# Altium footprint library PcbLib.PcbLib: 20 footprints (part 1 of 2)
Each footprint in its own frame and in the unit in brackets; x right, y up, seen from the top. Pads: shape width x height; smd on the part's side, far side on the other; paste and mask are expansions set on the pad; w line width, h text height; cw(c..) or ccw(c..) is an arc to the next point about the centre after c.
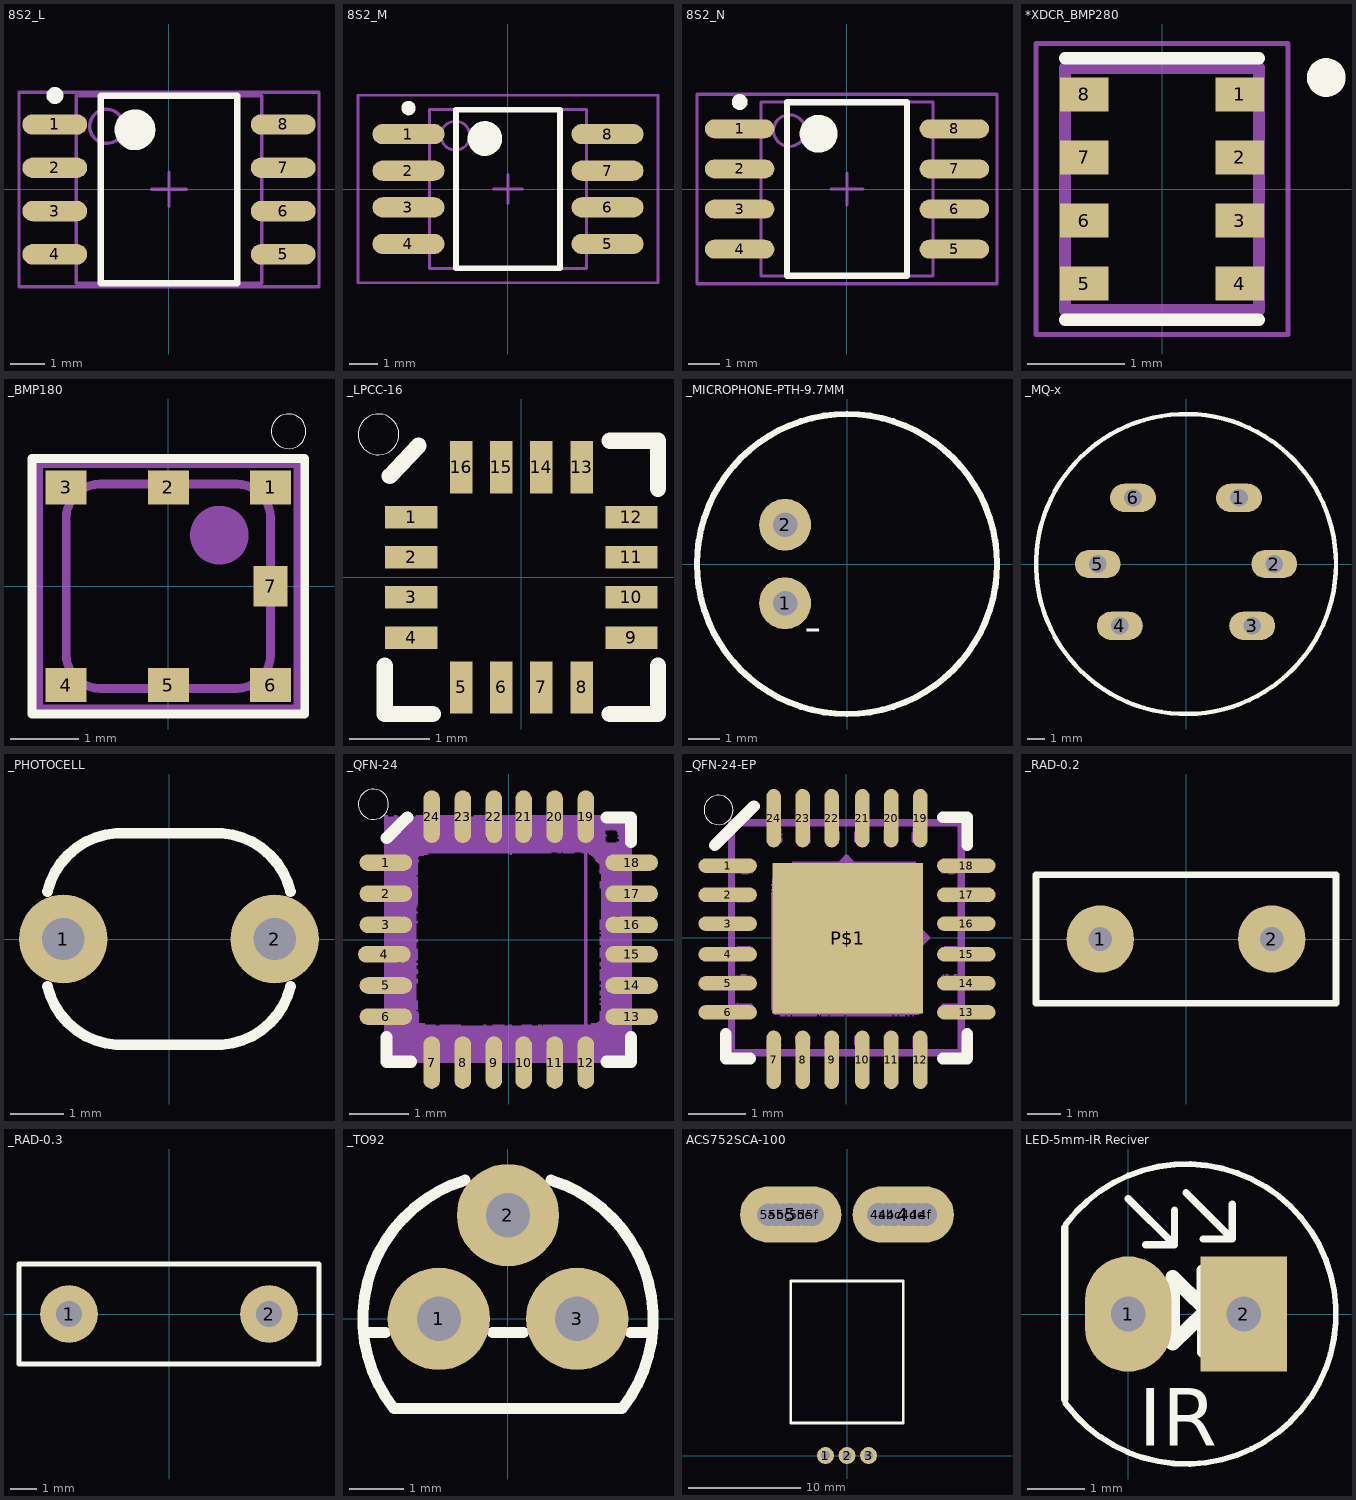
[diagram p0: the footprints below, top view; thin cyan lines are the x and y axes]

## 8S2_L [mm] "SOP, 8-Leads, Body 5.3x5.3mm, Pitch 1.27mm, IPC High Density"
height 2.16
pads (8):
  oval 1.9x0.6 smd: 1(-3.35,1.905) 2(-3.35,0.635) 3(-3.35,-0.635) 4(-3.35,-1.905) 5(3.35,-1.905) 6(3.35,-0.635) 7(3.35,0.635) 8(3.35,1.905)
Top Overlay:
  circle w0.25: c-3.35,2.755 r0.125
  circle w0.6: c-1,1.75 r0.3
  lines w0.2: -2,-2.75 -2,2.75 2,2.75 2,-2.75 -2,-2.75
Mechanical 13:
  circle w0.1: c-1.825,1.85 r0.5
  lines w0.1: -2.725,-2.75 -2.725,2.75 2.725,2.75 2.725,-2.75 -2.725,-2.75
Mechanical 15:
  lines w0.1: -0.5,0 0.5,0 ; 0,-0.5 0,0.5 ; -4.4,-2.85 -4.4,2.85 4.4,2.85 4.4,-2.85 -4.4,-2.85
3D body "User Library-SOP8.STEP": height 1.75, standoff 0, extent -3.1,-2.5 3.1,2.5

## 8S2_M [mm] "SOP, 8-Leads, Body 5.3x5.3mm, Pitch 1.27mm, IPC Low Density"
height 2.16
pads (8):
  oval 2.5x0.7 smd: 1(-3.45,1.905) 2(-3.45,0.635) 3(-3.45,-0.635) 4(-3.45,-1.905) 5(3.45,-1.905) 6(3.45,-0.635) 7(3.45,0.635) 8(3.45,1.905)
Top Overlay:
  circle w0.6: c-0.8,1.75 r0.3
  circle w0.25: c-3.45,2.805 r0.125
  lines w0.2: -1.8,-2.75 1.8,-2.75 1.8,2.75 -1.8,2.75 -1.8,-2.75
Mechanical 13:
  circle w0.1: c-1.825,1.85 r0.5
  lines w0.1: -2.725,-2.75 2.725,-2.75 2.725,2.75 -2.725,2.75 -2.725,-2.75
Mechanical 15:
  lines w0.1: -0.5,0 0.5,0 ; 0,-0.5 0,0.5 ; -5.2,-3.25 5.2,-3.25 5.2,3.25 -5.2,3.25 -5.2,-3.25
3D body "User Library-SOP8.STEP": height 1.75, standoff 0, extent -3.1,-2.5 3.1,2.5

## 8S2_N [mm] "SOP, 8-Leads, Body 5.3x5.3mm, Pitch 1.27mm, IPC Medium Density"
height 2.16
pads (8):
  oval 2.2x0.6 smd: 1(-3.4,1.905) 2(-3.4,0.635) 3(-3.4,-0.635) 4(-3.4,-1.905) 5(3.4,-1.905) 6(3.4,-0.635) 7(3.4,0.635) 8(3.4,1.905)
Top Overlay:
  circle w0.6: c-0.9,1.75 r0.3
  circle w0.25: c-3.4,2.755 r0.125
  lines w0.2: -1.9,-2.75 1.9,-2.75 1.9,2.75 -1.9,2.75 -1.9,-2.75
Mechanical 13:
  circle w0.1: c-1.825,1.85 r0.5
  lines w0.1: -2.725,-2.75 2.725,-2.75 2.725,2.75 -2.725,2.75 -2.725,-2.75
Mechanical 15:
  lines w0.1: -0.5,0 0.5,0 ; 0,-0.5 0,0.5 ; -4.75,-3 4.75,-3 4.75,3 -4.75,3 -4.75,-3
3D body "User Library-SOP8.STEP": height 1.75, standoff 0, extent -3.1,-2.5 3.1,2.5

## *XDCR_BMP280 [mm]
pads (8):
  rect 0.5x0.35 smd: 1(0.8,0.975) 2(0.8,0.325) 3(0.8,-0.325) 4(0.8,-0.975) 5(-0.8,-0.975) 6(-0.8,-0.325) 7(-0.8,0.325) 8(-0.8,0.975)
Top Overlay:
  circle w0.2: c1.695,1.15 r0.1
  lines w0.127: -1,-1.35 1,-1.35 ; -1,1.35 1,1.35
Mechanical 4:
  lines w0.127: -1,-1.25 -1,1.25 ; -1,-1.25 1,-1.25 ; -1,-1.25 -1,1.25 ; -1,-1.25 1,-1.25 ; -1,1.25 1,1.25 ; -1,1.25 1,1.25 ; 1,-1.25 1,1.25 ; 1,-1.25 1,1.25
Mechanical 16:
  lines w0.05: -1.3,-1.5 1.3,-1.5 1.3,1.5 -1.3,1.5 -1.3,-1.5

## _BMP180 [mm]
pads (7):
  rect 0.6x0.5 smd: 1(1.5,1.45) 2(0,1.45) 3(-1.5,1.45) 4(-1.5,-1.45) 5(0,-1.45) 6(1.5,-1.45)
  rect 0.5x0.6 smd: 7(1.5,0)
Top Overlay:
  circle w0: c1.766,2.274 r0.254
  lines w0.127: -2,-1.875 -2,1.875 2,1.875 2,-1.875 -2,-1.875
Mechanical 16:
  circle w0.61: c0.75,0.75 r0.125
  lines w0.127: -1.9,-1.8 -1.9,1.8 1.9,1.8 1.9,-1.8 -1.9,-1.8 ; -1.5,-1 ccw(c-1,-1) -1,-1.5 1,-1.5 ccw(c1,-1) 1.5,-1 1.5,1 ccw(c1,1) 1,1.5 -1,1.5 ccw(c-1,1) -1.5,1 -1.5,-1

## _LPCC-16 [mm]
pads (16):
  rect 0.65x0.28 smd: 1(-1.37,0.75) 2(-1.37,0.25) 3(-1.37,-0.25) 4(-1.37,-0.75) 9(1.37,-0.75) 10(1.37,-0.25) 11(1.37,0.25) 12(1.37,0.75)
  rect 0.28x0.65 smd: 5(-0.75,-1.37) 6(-0.25,-1.37) 7(0.25,-1.37) 8(0.75,-1.37) 13(0.75,1.37) 14(0.25,1.37) 15(-0.25,1.37) 16(-0.75,1.37)
Top Overlay:
  circle w0: c-1.778,1.778 r0.254
  lines w0.203: -1.7,-1.1 -1.7,-1.7 -1.1,-1.7 ; -1.635,1.26 -1.28,1.635 ; 1.1,-1.7 1.7,-1.7 1.7,-1.1 ; 1.1,1.7 1.7,1.7 1.7,1.1

## _MICROPHONE-PTH-9.7MM [mil]
pads (2):
  round 66 hole 31.5: 1(-78.74,-50) 2(-78.74,50)
Top Overlay:
  circle w8: c0,0 r190.94
  text "-" at -54.57,-115.35 h77.5

## _MQ-x [mm] "Gas sensor"
height 10
pads (6):
  oval 2.6x1.6 hole 1: 1(3,3.75) 2(5,0) 3(3.75,-3.5) 4(-3.75,-3.5) 5(-5,0) 6(-3,3.75)
Top Overlay:
  circle w0.254: c0,0 r8.5

## _PHOTOCELL [mil]
pads (2):
  round 66 hole 31.5: 1(-78.74,0) 2(78.74,0)
Top Overlay:
  lines w8: -90.55,-35.43 ccw(c-35.48,-22.25) -39.37,-78.74 39.37,-78.74 ccw(c35.48,-22.24) 90.55,-35.43 ; -90.55,35.43 cw(c-35.48,22.24) -39.37,78.74 39.37,78.74 cw(c35.48,22.25) 90.55,35.43

## _QFN-24 [mil]
pads (24):
  rrect100% 35x11 smd: 1(-81.74,51.21) 2(-81.74,30.53) 3(-81.74,9.84) 4(-82.74,-9.84) 5(-81.74,-30.53) 6(-81.74,-51.21) 13(81.74,-51.21) 14(81.74,-30.53) 15(81.74,-9.84) 16(81.74,9.84) 17(81.74,30.53) 18(81.74,51.21)
  rrect100% 11x35 smd: 7(-51.21,-81.74) 8(-30.53,-81.74) 9(-9.84,-81.74) 10(9.84,-81.74) 11(30.53,-81.74) 12(51.21,-81.74) 19(51.21,81.74) 20(30.53,81.74) 21(9.84,81.74) 22(-9.84,81.74) 23(-30.53,81.74) 24(-51.21,81.74)
Top Overlay:
  circle w0: c-90,90 r10
  lines w8: -81.24,-64.96 -81.24,-81.24 -64.96,-81.24 ; -81.24,67.46 -67.46,81.24 ; 64.96,-81.24 81.24,-81.24 81.24,-64.96 ; 64.96,81.24 81.24,81.24 81.24,64.96
Mechanical 14:
  lines w2: 51.2,-79.2 51.2,79.8
Mechanical 84:
  drawing of 757 lines, arcs and shapes, not listed

## _QFN-24-EP [mil]
pads (25):
  rrect100% 40x10 smd: 1(-81.35,49.48) 2(-81.35,29.51) 3(-81.35,9.74) 4(-81.35,-11.32) 5(-81.35,-31.19) 6(-81.35,-51.05) 13(82.13,-51.05) 14(82.13,-31.19) 15(82.13,-11.32) 16(82.13,9.74) 17(82.13,29.51) 18(82.13,49.48)
  rrect100% 10x40 smd: 7(-49.87,-83.53) 8(-30,-83.53) 9(-10.14,-83.53) 10(10.93,-83.53) 11(30.69,-83.53) 12(50.66,-83.53) 19(50.66,81.95) 20(30.69,81.95) 21(10.93,81.95) 22(-10.14,81.95) 23(-30,81.95) 24(-49.87,81.95)
  rect 103x103 smd: P$1(0.79,-0.39)
Top Overlay:
  circle w0: c-87.58,87.58 r10
  lines w8: -90.18,63.37 -63.37,90.18 ; -82.68,-65.87 -82.68,-82.68 -65.87,-82.68 ; 65.87,-82.68 82.68,-82.68 82.68,-65.87 ; 65.87,82.68 82.68,82.68 82.68,63.37
Top Paste:
  rectangle: 15.5,-34.5 34.5,-15.5
  rectangle: -32.5,-34.5 -13.5,-15.5
  rectangle: 17,13 36,32
  rectangle: -33,13 -14,32
Mechanical 16:
  circle w3.94: c0,0 r7.87
  lines w3.94: -11.81,27.56 cw(c0,25.59) 11.81,27.56 ; -7.87,47.24 0,55.12 ; 0,7.87 0,55.12 ; 7.87,0 55.12,0 ; 7.87,27.56 11.81,27.56 ; 7.87,47.24 0,55.12 ; 15.75,31.5 11.81,27.56 ; 27.56,-7.87 27.56,-11.81 ; 27.56,11.81 cw(c25.59,0) 27.56,-11.81 ; 31.5,-15.75 27.56,-11.81 ; 47.24,-7.87 55.12,0 ; 47.24,7.87 55.12,0
  lines w5: -78.74,-78.74 -78.74,78.74 78.74,78.74 78.74,-78.74 -78.74,-78.74
  text "Z" at -3.94,-23.62 h15.5
  text "X" at 43.31,15.75 h15.5
  text "Y" at -23.62,39.37 h15.5
Mechanical 84:
  drawing of 620 lines, arcs and shapes, not listed

## _RAD-0.2 [mm] "5.08mm"
pads (2):
  round 2 hole 0.7: 1(-2.54,0) 2(2.54,0)
Top Overlay:
  lines w0.2: -4.445,-1.905 -4.445,1.905 4.445,1.905 4.445,-1.905 -4.445,-1.905

## _RAD-0.3 [mm] "7.62mm"
height 6
pads (2):
  round 2.2 hole 1: 1(-3.81,0) 2(3.81,0)
Top Overlay:
  lines w0.2: -5.715,-1.905 -5.715,1.905 5.715,1.905 5.715,-1.905 -5.715,-1.905

## _TO92 [mil]
pads (3):
  round 74 hole 32: 1(-50,0) 2(0,75) 3(50,0)
Top Overlay:
  lines w8: -104.52,-10 -88.73,-10 ; -30.96,100.33 ccw(c0,0) -82.46,-65 82.46,-65 ccw(c0,0) 30.96,100.33 ; -11.27,-10 11.27,-10 ; 88.73,-10 104.52,-10

## ACS752SCA-100 [mil]
height 295.28
pads (17):
  round 59.06 hole 31.5: 1(-75.2,0) 2(0,0) 3(75.2,0)
  oval 353.63x196.63 hole 80: 4(196.85,842.52) 5(-196.85,842.52)
  round 70 hole 80: 4a(110.78,842.52) 4b(139,842.52) 4c(165.52,842.52) 4d(220.26,842.52) 4e(247,842.52) 4f(275,842.52) 5a(-275,842) 5b(-246,842) 5c(-220,842) 5d(-173,842) 5e(-146,842) 5f(-120,842)
Top Overlay:
  lines w10: -196.85,114.17 196.85,114.17 196.85,610.24 -196.85,610.24 -196.85,114.17
3D body: height 159.45, standoff -118.11, extent -9.84,-7.48 9.84,7.48
3D body: height 287.4, standoff 11.81, extent -196.85,114.17 196.85,610.24
3D body: height 177.17, standoff 118.11, extent -277.56,283.46 -116.14,874.02
3D body: height 177.17, standoff 118.11, extent 116.14,283.46 277.56,874.02
3D body: height 118.11, standoff -125.98, extent -277.56,811.02 -116.14,874.02
3D body: height 118.11, standoff -125.98, extent 116.14,811.02 277.56,874.02
3D body: height 159.45, standoff -118.11, extent -85.04,-7.48 -65.35,7.48
3D body: height 159.45, standoff -118.11, extent 65.35,-7.48 85.04,7.48
3D body: height 174.41, standoff 159.45, extent 65.35,-7.48 85.04,114.17
3D body: height 174.41, standoff 159.45, extent -9.84,-7.48 9.84,114.17
3D body: height 174.41, standoff 159.45, extent -85.04,-7.48 -65.35,114.17

## LED-5mm-IR Reciver [mm]
pads (2):
  oval 1.5x2 hole 0.6: 1(0,0)
  rect 1.5x2 hole 0.6: 2(2,0)
Top Overlay:
  lines w0.1: -1.089,-1.548 ccw(c1,0) -1.08,1.56
  lines w0.127: -1.1,-1.483 -1.1,1.5 ; 0,2 0.8,1.2 ; 0.3,1.2 0.8,1.2 ; 0.8,1.8 0.8,1.2 ; 1,2.1 1.8,1.3 ; 1.3,1.3 1.8,1.3 ; 1.8,1.9 1.8,1.3
  lines w0.2: 1.278,0.762 1.295,-0.661
  lines w0.254: 1.295,0 0.77,-0.508 0.77,0.635 1.295,0.127
  text "IR" at 0.178,-2.286 h1